# Altium footprint library SO-8.PcbLib: 1 footprints
Each footprint in its own frame and in the unit in brackets; x right, y up, seen from the top. Pads: shape width x height; smd on the part's side, far side on the other; paste and mask are expansions set on the pad; w line width, h text height; cw(c..) or ccw(c..) is an arc to the next point about the centre after c.
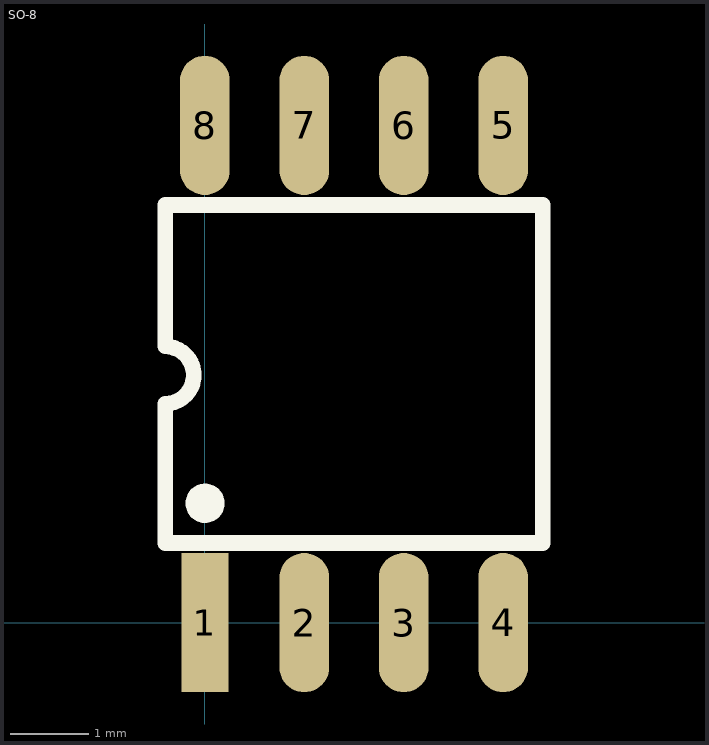
[diagram p0: the footprint, top view; thin cyan lines are the x and y axes]

## SO-8 [mil]
pads (8):
  rect 23.62x70 smd: 1(0,0)
  oval 25x70 smd: 2(50,0) 3(100,0) 4(150,0) 5(150,250) 6(100,250) 7(50,250) 8(0,250)
Top Overlay:
  circle w9.84: c0.08,60 r4.92
  lines w7.87: -20,138.87 cw(c-20,124.44) -20,110 -20,40 170,40 170,210 -20,210 -20,140
3D body: height 68, standoff 0, extent -20,40 170,210